# Altium schematic symbol library con-friwo.SCHLIB: 1 symbol
Pins are listed as number, name and electrical type; pins without a type are passive.

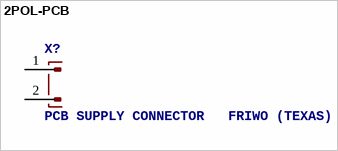
[diagram p0: symbol 2POL-PCB]

## 2POL-PCB
designator X?, comment PCB SUPPLY CONNECTOR   FRIWO (TEXAS)
OC_FARNELL: unknown; OC_NEWARK: unknown
footprint 2POL-PCB
pins: 1, 2